# Altium schematic symbol library CSTCE8M00G15L99-R0.SchLib: 1 symbol
Pins are listed as number, name and electrical type; pins without a type are passive.

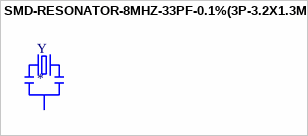
[diagram p0: symbol SMD-RESONATOR-8MHZ-33PF-0.1%(3P-3.2X1.3MM)]

## SMD-RESONATOR-8MHZ-33PF-0.1%(3P-3.2X1.3MM)
designator Y
8MHz Ceramic Resonator Built in Capacitor 33pF Â±0.08% 0Â°C ~ 70Â°C Surface Mount; MP: CSTCE8M00G15L99-R0; MF: Murata; SnapEDA_Link: https://www.snapeda.com/parts/CSTCE8M00G15L99-R0/Murata%20Electronics%20North%20America/view-part/105669/?ref=snap; Value: *; Availability: Unavailable; Package: SMD-3 Murata; Price: None
footprint X3-SMD-3.6X1.3X0.8MM
pins: 1, 2, 3